# Altium footprint library 0805res.PcbLib: 1 footprints
Each footprint in its own frame and in the unit in brackets; x right, y up, seen from the top. Pads: shape width x height; smd on the part's side, far side on the other; paste and mask are expansions set on the pad; w line width, h text height; cw(c..) or ccw(c..) is an arc to the next point about the centre after c.
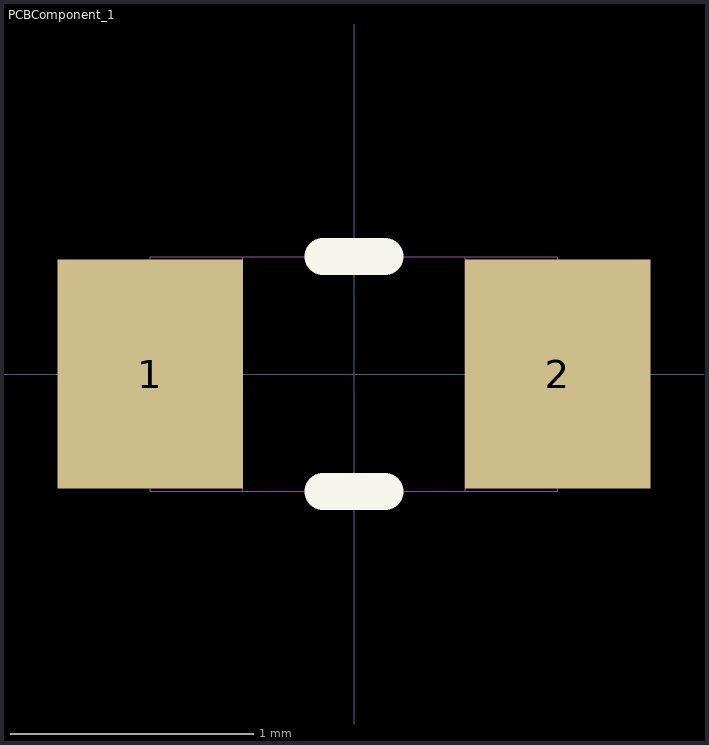
[diagram p0: the footprint, top view; thin cyan lines are the x and y axes]

## PCBComponent_1 [mil]
pads (2):
  rect 30x37 smd: 1(-33,0) 2(33,0)
Top Overlay:
  lines w6: -5,-19 5,-19 ; -5,19 5,19
Mechanical 13:
  lines w0: -18,-19 18,-19 ; -18,-19 -33,-19 -33,19 -18,19 ; -18,-19 -18,19 ; -18,19 18,19 ; 18,-19 33,-19 33,19 18,19 ; 18,-19 18,19
3D body "step_temp.STEP": height 25.59, standoff 0, extent -39.37,-24.61 39.37,24.61